# Altium schematic symbol library EZA-EG1N50AC.SchLib: 1 symbol
Pins are listed as number, name and electrical type; pins without a type are passive.

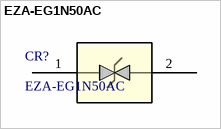
[diagram p0: symbol EZA-EG1N50AC]

## EZA-EG1N50AC
designator CR?
Description; Manufacturer_Name: Panasonic; Copyright: Copyright (C) 2026 Ultra Librarian. All rights reserved.; Manufacturer_Part_Number: EZA-EG1N50AC; RefDes: RefDes; Type: Type
footprint EZAEG1N_PAN
pins: 1, 2